# EAGLE library part YM3014B (library YM)
Dual In Line / Socket
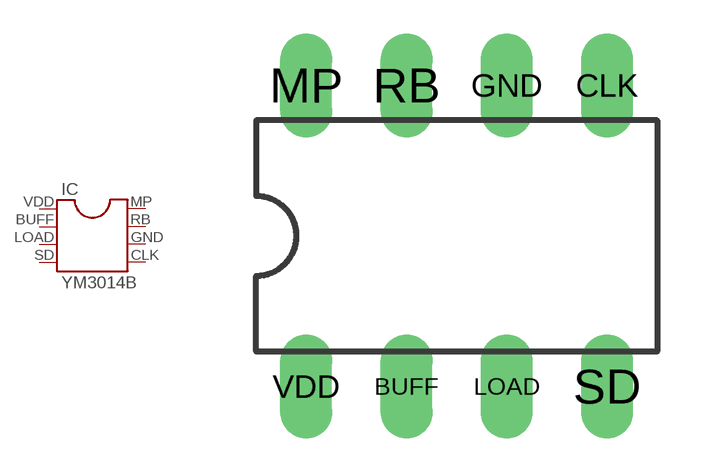
[diagram p2: symbol with the pads of YM3014B; footprint YM3014B]

Designator prefix IC

## YM3014B  [YM3014B]
BUFF  BUFF  pas
CLK  CLK  pas
GND  GND  pas
LOAD  LOAD  pas
MP  MP  pas
RB  RB  pas
SD  SD  pas
VDD  VDD  pas

## Footprint YM3014B (pad centres in mm)
Dual In Line Package
drill 0.813 long: BUFF -1.27,-3.81; CLK 3.81,3.81; GND 1.27,3.81; LOAD 1.27,-3.81; MP -3.81,3.81; RB -1.27,3.81; SD 3.81,-3.81; VDD -3.81,-3.81